# EAGLE library part LTC4040 (library SnapEDA)
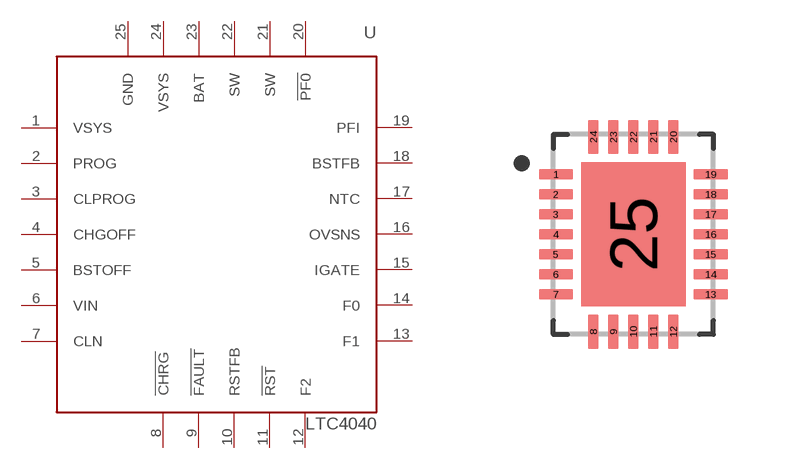
[diagram p20: symbol with the pads of QFN50P500X400X80-25N; footprint QFN50P500X400X80-25N]

Designator prefix U

## LTC4040  [QFN50P500X400X80-25N]
1  VSYS
2  PROG
3  CLPROG
4  CHGOFF
5  BSTOFF
6  VIN
7  CLN
8  !CHRG
9  !FAULT
10  RSTFB
11  !RST
12  F2
13  F1
14  F0
15  IGATE
16  OVSNS
17  NTC
18  BSTFB
19  PFI
20  !PF0
21  SW
22  SW
23  BAT
24  VSYS
25  GND

## Footprint QFN50P500X400X80-25N (pad centres in mm)
smd 0.86 x 0.27: 1 -1.935,1.5; 2 -1.935,1; 3 -1.935,0.5; 4 -1.935,0; 5 -1.935,-0.5; 6 -1.935,-1; 7 -1.935,-1.5; 13 1.935,-1.5; 14 1.935,-1; 15 1.935,-0.5; 16 1.935,0; 17 1.935,0.5; 18 1.935,1; 19 1.935,1.5
smd 0.27 x 0.86: 8 -1,-2.435; 9 -0.5,-2.435; 10 0,-2.435; 11 0.5,-2.435; 12 1,-2.435; 20 1,2.435; 21 0.5,2.435; 22 0,2.435; 23 -0.5,2.435; 24 -1,2.435
smd 2.61 x 3.61: 25 0,0